# Altium schematic symbol library 0E.SchLib: 1 symbol
Pins are listed as number, name and electrical type; pins without a type are passive.

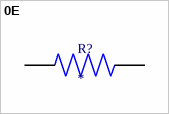
[diagram p0: symbol 0E]

## 0E
designator R?
0 Ohms Jumper 0.1W, 1/10W Chip Resistor 0603 (1608 Metric) Moisture Resistant Thick Film; MP: RC0603JR-070RP; MF: Yageo; Package: 1608 Yageo; Mouser-Purchase-URL: https://snapeda.com/shop?store=Mouser&id=948024; SnapEDA_Link: https://www.snapeda.com/parts/RC0603JR-070RP/Yageo/view-part/948024/?ref=snap; Availability: Warning; Price: None; Value: *; DigiKey-Purchase-URL: https://snapeda.com/shop?store=DigiKey&id=948024
footprint 0E
pins: 1, 2